# Altium footprint library 2311765-1.PcbLib: 1 footprints
Each footprint in its own frame and in the unit in brackets; x right, y up, seen from the top. Pads: shape width x height; smd on the part's side, far side on the other; paste and mask are expansions set on the pad; w line width, h text height; cw(c..) or ccw(c..) is an arc to the next point about the centre after c.
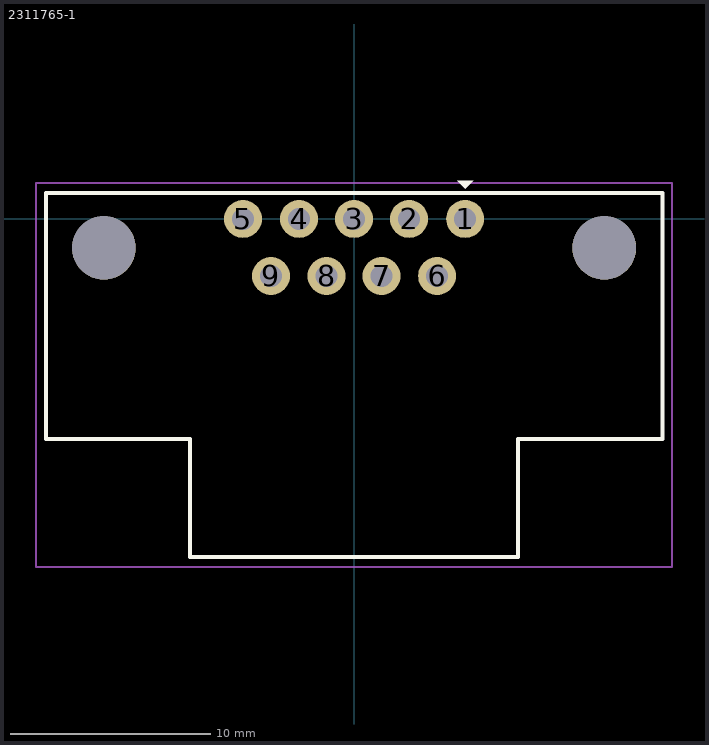
[diagram p0: the footprint, top view; thin cyan lines are the x and y axes]

## 2311765-1 [mm]
pads (11):
  round 1.9 hole 1.1: 1(5.55,0) 2(2.75,0) 3(0,0) 4(-2.75,0) 5(-5.55,0) 6(4.15,-2.85) 7(1.375,-2.85) 8(-1.375,-2.85) 9(-4.15,-2.85)
  round 3.18 hole 3.18 unplated: ""(-12.5,-1.45) ""(12.5,-1.45)
Top Overlay:
  region: 5.15,1.9 5.95,1.9 5.55,1.5
  lines w0.2: -15.4,-11 -8.2,-11 -8.2,-16.9 8.2,-16.9 8.2,-11 15.4,-11 15.4,1.3 -15.4,1.3 -15.4,-11
Top Courtyard:
  lines w0.1: -15.9,-17.4 -15.9,1.795 15.895,1.795 15.895,-17.4 -15.9,-17.4
3D body "2311765-1.stp": height 12.6, standoff -4.05, extent -15.405,-16.9 15.405,1.3